# Altium footprint library Devices.PcbLib: 190 footprints (part 3 of 12)
Each footprint in its own frame and in the unit in brackets; x right, y up, seen from the top. Pads: shape width x height; smd on the part's side, far side on the other; paste and mask are expansions set on the pad; w line width, h text height; cw(c..) or ccw(c..) is an arc to the next point about the centre after c.
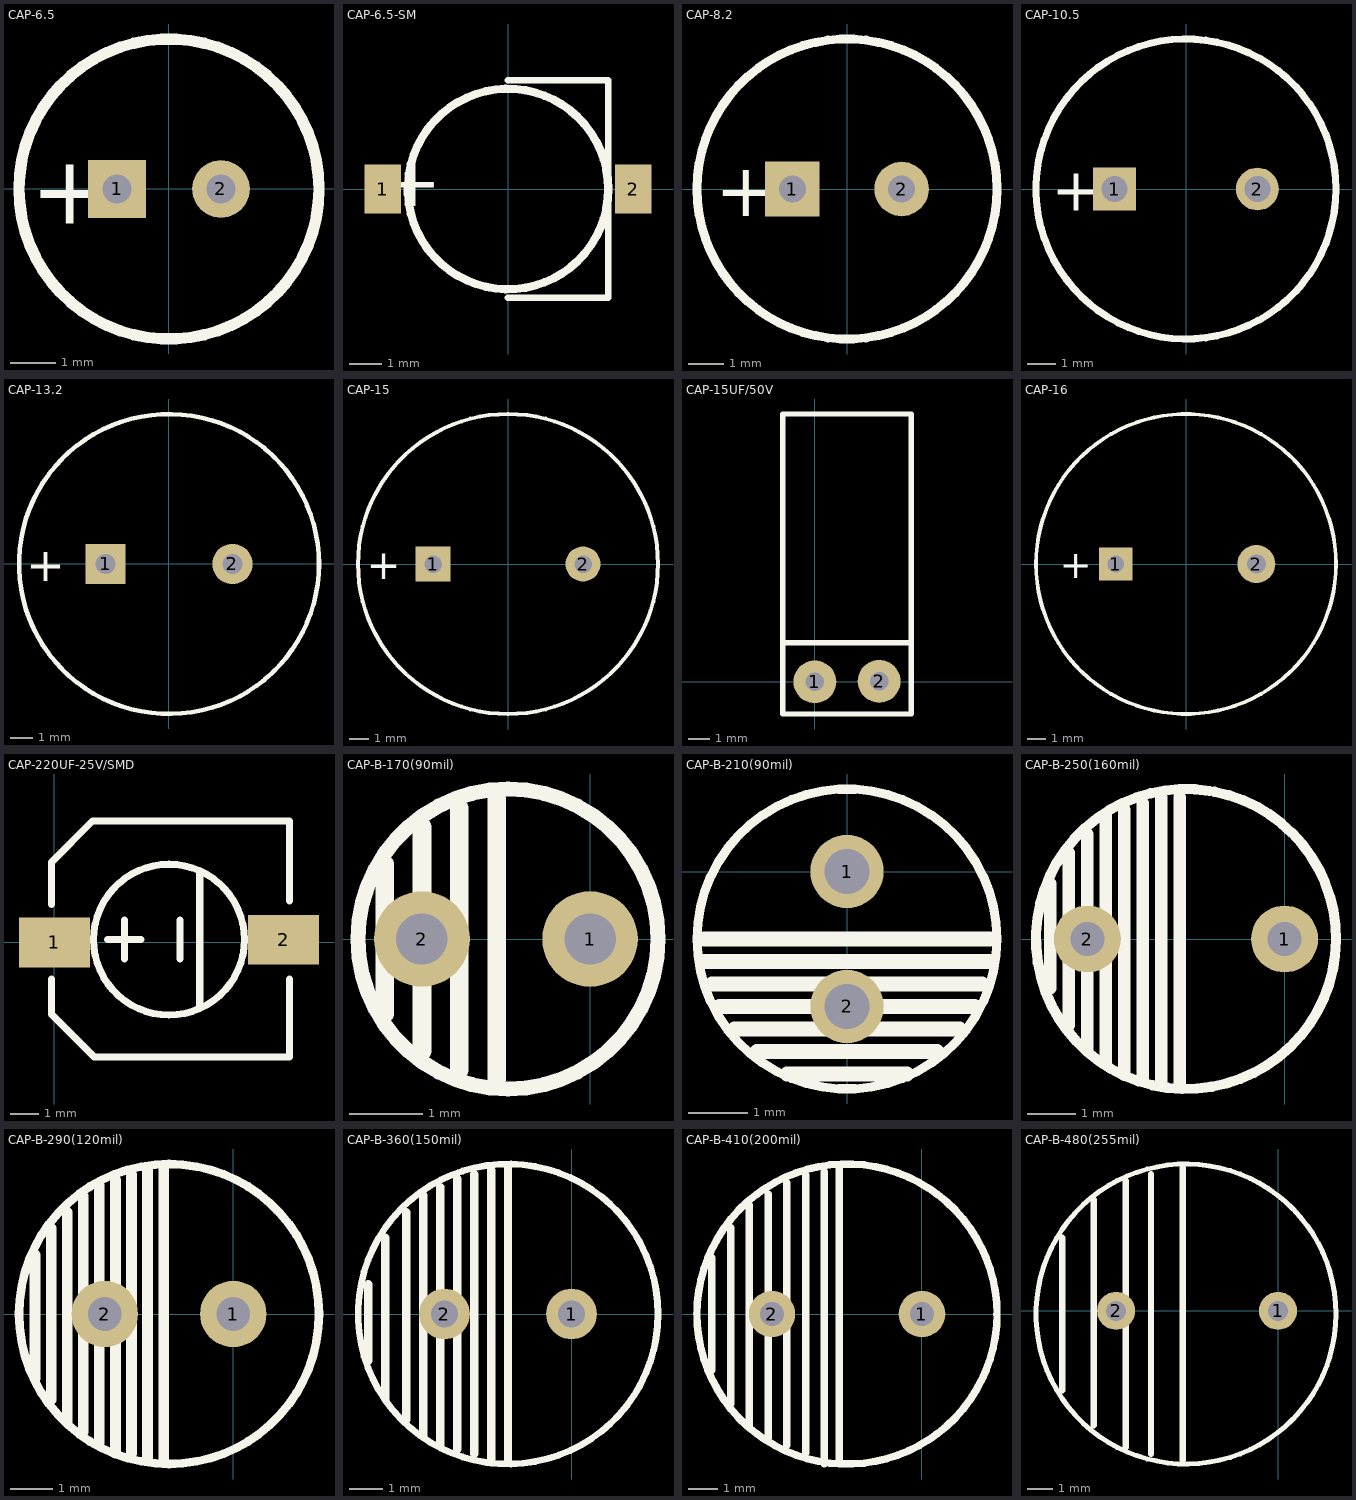
[diagram p2: the footprints below, top view; thin cyan lines are the x and y axes]

## CAP-6.5 [mil]
pads (2):
  rect 50x50 hole 25: 1(-45,0)
  round 50 hole 25: 2(45,0)
Top Overlay:
  circle w9.84: c0,0 r130
  text "+" at -120,-30 h59.06

## CAP-6.5-SM [mm]
pads (2):
  rect 1.1x1.5 smd: 1(-3.81,0) 2(3.81,0)
Top Overlay:
  circle w0.25: c0,0 r3.048
  lines w0.2: 0,-3.302 3.048,-3.302 3.048,3.302 0,3.302
  text "+" at -2.032,0.762 h1.5

## CAP-8.2 [mil]
pads (2):
  rect 60x60 hole 30: 1(-60,0)
  round 60 hole 30: 2(60,0)
Top Overlay:
  circle w9.84: c0,0 r165
  text "+" at -145,-30 h59.06

## CAP-10.5 [mm]
pads (2):
  rect 1.5x1.5 hole 0.9: 1(-2.5,0)
  round 1.5 hole 0.9: 2(2.5,0)
Top Overlay:
  circle w0.25: c0,0 r5.25
  text "+" at -4.699,-0.762 h1.5
Mechanical 1:
  circle w0.02: c0,0 r5.25

## CAP-13.2 [mil] "Polarized Capacitor (Radial); 2 Leads"
pads (2):
  rect 70x70 hole 35: 1(-110,0)
  round 70 hole 35: 2(110,0)
Top Overlay:
  circle w7.87: c0,0 r260
  text "+" at -180,-30 h59.06

## CAP-15 [mil] "Polarized Capacitor (Radial); 2 Leads"
pads (2):
  rect 70x70 hole 35: 1(-150,0)
  round 70 hole 35: 2(150,0)
Top Overlay:
  circle w7.87: c0,0 r300
  text "+" at -215,-30 h59.06

## CAP-15UF/50V [mil]
pads (2):
  round 80 hole 35: 1(0,0) 2(120,1)
Top Overlay:
  lines w10: -58,73 178,73 ; -60,-60 180,-60 180,500 -60,500 -60,-60
Multi-Layer:
  text "+" at -111,-21 h40

## CAP-16 [mil] "Capacitor, Electrolytic, Radial; Body 16 x 35 mm (Dia.xH typ); Pin Spacing 7.5 mm (typ)"
pads (2):
  rect 70x70 hole 35: 1(-147.64,0)
  round 80 hole 40: 2(147.64,0)
Top Overlay:
  circle w7.87: c0,0 r314.96
  text "+" at -265,-30 h59.06

## CAP-220UF-25V/SMD [mil]
pads (2):
  rect 100x70 smd: 1(0,0) 2(322.83,3.93)
Top Overlay:
  circle w10: c161.41,3.93 r106.3
  lines w10: -3.94,-51.42 -3.94,-101.42 56.06,-161.42 331.06,-161.42 331.06,-51.42 ; -3.94,53.58 -3.94,113.58 53.56,171.08 331.06,171.08 331.06,58.58 ; 74.8,3.93 122.04,3.93 ; 98.42,-23.62 98.42,31.49 ; 177.16,-23.62 177.16,31.49 ; 204.72,-90.55 204.72,98.42

## CAP-B-170(90mil) [mm]
pads (2):
  round 1.3 hole 0.7: 1(0,0) 2(-2.286,0)
Top Overlay:
  circle w0.203: c-1.116,0 r2.04
  lines w0.254: -2.794,-1.016 -2.794,1.016 ; -2.286,-1.524 -2.286,1.524 ; -1.778,-1.778 -1.778,1.778 ; -1.27,-1.905 -1.27,1.905

## CAP-B-210(90mil) [mm]
pads (2):
  round 1.24 hole 0.762: 1(0,0) 2(0,-2.286)
Top Overlay:
  circle w0.154: c0,-1.143 r2.54
  lines w0.254: -2.413,-1.524 2.413,-1.524 ; -2.413,-1.143 2.413,-1.143 ; -2.286,-1.905 2.286,-1.905 ; -2.159,-2.286 2.159,-2.286 ; -1.905,-2.667 1.905,-2.667 ; -1.524,-3.048 1.524,-3.048 ; -1.016,-3.429 1.016,-3.429

## CAP-B-250(160mil) [mm]
pads (2):
  round 1.38 hole 0.7: 1(0,0) 2(-4.064,0)
Top Overlay:
  lines w0.21: -1.549,3.052 ccw(c-2.032,0) -1.442,3.033
  lines w0.254: -4.826,-1.016 -4.826,1.143 ; -4.445,-1.778 -4.445,1.778 ; -4.064,-2.286 -4.064,2.159 ; -3.683,-2.54 -3.683,2.54 ; -3.302,-2.794 -3.302,2.667 ; -2.921,-2.921 -2.921,2.794 ; -2.54,-2.921 -2.54,2.921 ; -2.159,-3.048 -2.159,2.921

## CAP-B-290(120mil) [mil]
pads (2):
  round 62 hole 31.5: 1(0,0) 2(-120,0)
Top Overlay:
  circle w8: c-60,0 r140
  lines w10: -185,-60 -185,55 ; -170,-80 -170,80 ; -155,-100 -155,95 ; -140,-110 -140,110 ; -125,-120 -125,120 ; -110,-130 -110,125 ; -95,-130 -95,130 ; -80,-135 -80,135 ; -65,-135 -65,135

## CAP-B-360(150mil) [mil]
pads (2):
  round 60 hole 31.5: 1(0,0) 2(-150,0)
Top Overlay:
  circle w7.87: c-75,0 r177.16
  lines w10: -240,-55 -240,35 ; -220,-100 -220,90 ; -195,-125 -195,120 ; -175,-145 -175,140 ; -155,-155 -155,150 ; -135,-160 -135,160 ; -115,-165 -115,165 ; -95,-175 -95,170 ; -75,-175 -75,175

## CAP-B-410(200mil) [mil]
pads (2):
  round 62 hole 31.5: 1(0,0) 2(-200,0)
Top Overlay:
  circle w10: c-100,0 r200
  lines w10: -280,-75 -280,75 ; -255,-120 -255,115 ; -230,-150 -230,145 ; -205,-165 -205,160 ; -180,-175 -180,175 ; -155,-185 -155,185 ; -130,-200 -130,190 ; -110,-200 -110,195

## CAP-B-480(255mil) [mil]
pads (2):
  round 60 hole 31.5: 1(0,0) 2(-255,0)
Top Overlay:
  circle w7.87: c-145,-5 r236.22
  lines w10: -340,-125 -340,115 ; -290,-180 -290,175 ; -240,-215 -240,205 ; -200,-225 -200,215 ; -150,-235 -150,225